# Altium schematic symbol library WS-ROTV.SchLib: 28 symbols
Pins are listed as number, name and electrical type; pins without a type are passive.

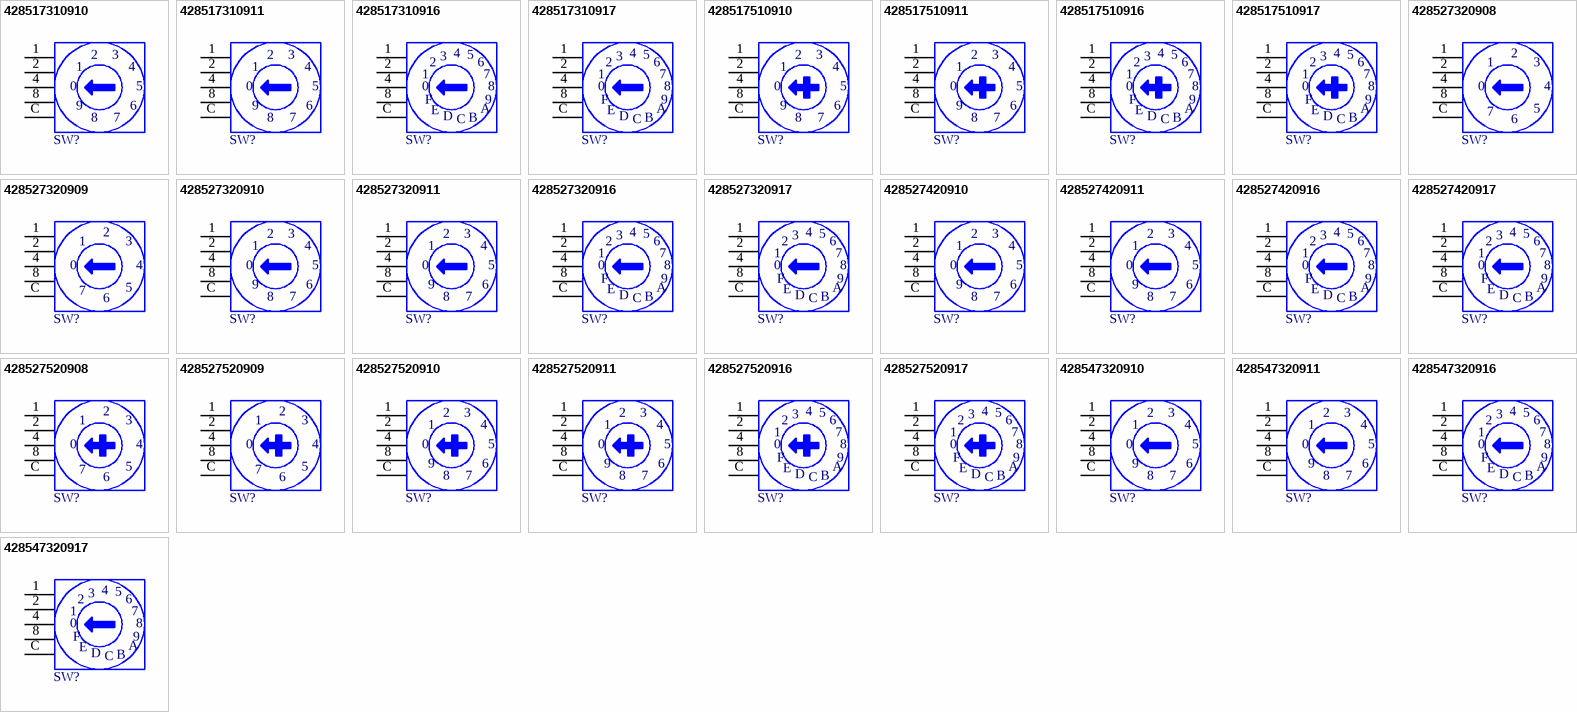
[diagram p0: symbols 428517310910 to 428547320917]

## 428517310910
designator SW?  (value not drawn)
WS-ROTV THT IP67 Rotary Switch 4x1 Terminal with Arrow Type Actuator, 10 x 10mm, Arrow Type, 10p; Manufacturer: Wurth Elektronik; Actuator Color: Dark Grey; Code: Real Code; Cover Material: PA66; Number of Positions: 10; Rated Current: 200mA; Rated Voltage: 42VDC; Washable: Yes; Manufacturer Part Number: 428517310910; Category: Rotary Switches; Switches.Match Code: WS-ROTV; ComponentLink1Description: Website Link; ComponentLink1URL: https://www.we-online.com/redexpert/article/428517310910?ad; ComponentLink2Description: Datasheet Link; ComponentLink2URL: https://www.we-online.com/redexpert/spec/428517310910?ad; Mount: Through Hole; Operating Temperature Max: 85°C; Operating Temperature Min: -40°C; Packaging: Tube; Length: 10mm; Width: 10mm; Height: 6.5mm; Actuator Type: Arrow Type; Ingress Protection Code: IP67; Terminal Plating: Gold; Switches.Match Code_1: WS-ROTV
footprint 42851731091x_10p
pins: 1, 2, 4, 8, C
text: 3; 0; 5; 9; 6; 7

## 428517310911
designator SW?  (value not drawn)
WS-ROTV THT IP67 Rotary Switch 4x1 Terminal with Arrow Type Actuator, 10 x 10mm, Arrow Type, 10p; Manufacturer: Wurth Elektronik; Actuator Color: Ivory; Code: Complement Code; Cover Material: PA66; Number of Positions: 10; Rated Current: 200mA; Rated Voltage: 42VDC; Washable: Yes; Manufacturer Part Number: 428517310911; Category: Rotary Switches; Switches.Match Code: WS-ROTV; ComponentLink1Description: Website Link; ComponentLink1URL: https://www.we-online.com/redexpert/article/428517310911?ad; ComponentLink2Description: Datasheet Link; ComponentLink2URL: https://www.we-online.com/redexpert/spec/428517310911?ad; Mount: Through Hole; Operating Temperature Max: 85°C; Operating Temperature Min: -40°C; Packaging: Tube; Length: 10mm; Width: 10mm; Height: 6.5mm; Actuator Type: Arrow Type; Ingress Protection Code: IP67; Terminal Plating: Gold; Switches.Match Code_1: WS-ROTV
footprint 42851731091x_10p
pins: 1, 2, 4, 8, C
text: 3; 0; 5; 9; 6; 7

## 428517310916
designator SW?  (value not drawn)
WS-ROTV THT IP67 Rotary Switch 4x1 Terminal with Arrow Type Actuator, 10 x 10mm, Arrow Type, 16p; Manufacturer: Wurth Elektronik; Actuator Color: Dark Grey; Code: Real Code; Cover Material: PA66; Number of Positions: 16; Rated Current: 200mA; Rated Voltage: 42VDC; Washable: Yes; Manufacturer Part Number: 428517310916; Category: Rotary Switches; Switches.Match Code: WS-ROTV; ComponentLink1Description: Website Link; ComponentLink1URL: https://www.we-online.com/redexpert/article/428517310916?ad; ComponentLink2Description: Datasheet Link; ComponentLink2URL: https://www.we-online.com/redexpert/spec/428517310916?ad; Mount: Through Hole; Operating Temperature Max: 85°C; Operating Temperature Min: -40°C; Packaging: Tube; Length: 10mm; Width: 10mm; Height: 6.5mm; Actuator Type: Arrow Type; Ingress Protection Code: IP67; Terminal Plating: Gold; Switches.Match Code_1: WS-ROTV
footprint 42851731091x_16p
pins: 1, 2, 4, 8, C
text: 3; 5; 6; 7; 0; F; 9; E; A; D; B

## 428517310917
designator SW?  (value not drawn)
WS-ROTV THT IP67 Rotary Switch 4x1 Terminal with Arrow Type Actuator, 10 x 10mm, Arrow Type, 16p; Manufacturer: Wurth Elektronik; Actuator Color: Ivory; Code: Complement Code; Cover Material: PA66; Number of Positions: 16; Rated Current: 200mA; Rated Voltage: 42VDC; Washable: Yes; Manufacturer Part Number: 428517310917; Category: Rotary Switches; Switches.Match Code: WS-ROTV; ComponentLink1Description: Website Link; ComponentLink1URL: https://www.we-online.com/redexpert/article/428517310917?ad; ComponentLink2Description: Datasheet Link; ComponentLink2URL: https://www.we-online.com/redexpert/spec/428517310917?ad; Mount: Through Hole; Operating Temperature Max: 85°C; Operating Temperature Min: -40°C; Packaging: Tube; Length: 10mm; Width: 10mm; Height: 6.5mm; Actuator Type: Arrow Type; Ingress Protection Code: IP67; Terminal Plating: Gold; Switches.Match Code_1: WS-ROTV
footprint 42851731091x_16p
pins: 1, 2, 4, 8, C
text: 3; 5; 6; 7; 0; F; 9; E; A; D; B

## 428517510910
designator SW?  (value not drawn)
WS-ROTV THT IP67 Rotary Switch 4x1 Terminal with Cross Type Actuator, 10 x 10mm, Cross Type, 10p; Manufacturer: Wurth Elektronik; Actuator Color: Dark Grey; Code: Real Code; Cover Material: PA66; Number of Positions: 10; Rated Current: 200mA; Rated Voltage: 42VDC; Washable: Yes; Manufacturer Part Number: 428517510910; Category: Rotary Switches; Switches.Match Code: WS-ROTV; ComponentLink1Description: Website Link; ComponentLink1URL: https://www.we-online.com/redexpert/article/428517510910?ad; ComponentLink2Description: Datasheet Link; ComponentLink2URL: https://www.we-online.com/redexpert/spec/428517510910?ad; Mount: Through Hole; Operating Temperature Max: 85°C; Operating Temperature Min: -40°C; Packaging: Tube; Length: 10mm; Width: 10mm; Height: 6.5mm; Actuator Type: Cross Type; Ingress Protection Code: IP67; Terminal Plating: Gold; Switches.Match Code_1: WS-ROTV
footprint 42851751091x_10p
pins: 1, 2, 4, 8, C
text: 3; 0; 5; 9; 6; 7

## 428517510911
designator SW?  (value not drawn)
WS-ROTV THT IP67 Rotary Switch 4x1 Terminal with Cross Type Actuator, 10 x 10mm, Cross Type, 10p; Manufacturer: Wurth Elektronik; Actuator Color: Ivory; Code: Complement Code; Cover Material: PA66; Number of Positions: 10; Rated Current: 200mA; Rated Voltage: 42VDC; Washable: Yes; Manufacturer Part Number: 428517510911; Category: Rotary Switches; Switches.Match Code: WS-ROTV; ComponentLink1Description: Website Link; ComponentLink1URL: https://www.we-online.com/redexpert/article/428517510911?ad; ComponentLink2Description: Datasheet Link; ComponentLink2URL: https://www.we-online.com/redexpert/spec/428517510911?ad; Mount: Through Hole; Operating Temperature Max: 85°C; Operating Temperature Min: -40°C; Packaging: Tube; Length: 10mm; Width: 10mm; Height: 6.5mm; Actuator Type: Cross Type; Ingress Protection Code: IP67; Terminal Plating: Gold; Switches.Match Code_1: WS-ROTV
footprint 42851751091x_10p
pins: 1, 2, 4, 8, C
text: 3; 0; 5; 9; 6; 7

## 428517510916
designator SW?  (value not drawn)
WS-ROTV THT IP67 Rotary Switch 4x1 Terminal with Cross Type Actuator, 10 x 10mm, Cross Type, 16p; Manufacturer: Wurth Elektronik; Actuator Color: Dark Grey; Code: Real Code; Cover Material: PA66; Number of Positions: 16; Rated Current: 200mA; Rated Voltage: 42VDC; Washable: Yes; Manufacturer Part Number: 428517510916; Category: Rotary Switches; Switches.Match Code: WS-ROTV; ComponentLink1Description: Website Link; ComponentLink1URL: https://www.we-online.com/redexpert/article/428517510916?ad; ComponentLink2Description: Datasheet Link; ComponentLink2URL: https://www.we-online.com/redexpert/spec/428517510916?ad; Mount: Through Hole; Operating Temperature Max: 85°C; Operating Temperature Min: -40°C; Packaging: Tube; Length: 10mm; Width: 10mm; Height: 6.5mm; Actuator Type: Cross Type; Ingress Protection Code: IP67; Terminal Plating: Gold; Switches.Match Code_1: WS-ROTV
footprint 42851751091x_16p
pins: 1, 2, 4, 8, C
text: 3; 5; 6; 7; 0; F; 9; E; A; D; B

## 428517510917
designator SW?  (value not drawn)
WS-ROTV THT IP67 Rotary Switch 4x1 Terminal with Cross Type Actuator, 10 x 10mm, Cross Type, 16p; Manufacturer: Wurth Elektronik; Actuator Color: Ivory; Code: Complement Code; Cover Material: PA66; Number of Positions: 16; Rated Current: 200mA; Rated Voltage: 42VDC; Washable: Yes; Manufacturer Part Number: 428517510917; Category: Rotary Switches; Switches.Match Code: WS-ROTV; ComponentLink1Description: Website Link; ComponentLink1URL: https://www.we-online.com/redexpert/article/428517510917?ad; ComponentLink2Description: Datasheet Link; ComponentLink2URL: https://www.we-online.com/redexpert/spec/428517510917?ad; Mount: Through Hole; Operating Temperature Max: 85°C; Operating Temperature Min: -40°C; Packaging: Tube; Length: 10mm; Width: 10mm; Height: 6.5mm; Actuator Type: Cross Type; Ingress Protection Code: IP67; Terminal Plating: Gold; Switches.Match Code_1: WS-ROTV
footprint 42851751091x_16p
pins: 1, 2, 4, 8, C
text: 3; 5; 6; 7; 0; F; 9; E; A; D; B

## 428527320908
designator SW?  (value not drawn)
WS-ROTV THT Rotary Switch with Arrow Type Actuator, 10 x 10mm, Arrow Type, 8p; Manufacturer: Wurth Elektronik; Cover Material: PA66; Number of Positions: 8; Rated Current: 150mA; Rated Voltage: 24VDC; Washable: Yes; ComponentLink1Description: Website Link; ComponentLink1URL: https://www.we-online.com/redexpert/article/428527320908?ad; ComponentLink2Description: Datasheet Link; ComponentLink2URL: https://www.we-online.com/redexpert/spec/428527320908?ad; Manufacturer Part Number: 428527320908; Category: Rotary Switches; Match Code: WS-ROTV; Mount: Through Hole; Operating Temperature Max: 85°C; Operating Temperature Min: -40°C; Packaging: Tube; Length: 10mm; Width: 10mm; Height: 6.5mm; Actuator Type: Arrow Type; Terminal Plating: Gold
footprint 42852732090x_8p
pins: 1, 2, 4, 8, C
text: 3; 0; 7; 5; 6

## 428527320909
designator SW?  (value not drawn)
WS-ROTV THT Rotary Switch with Arrow Type Actuator, 10 x 10mm, Arrow Type, 8p; Manufacturer: Wurth Elektronik; Cover Material: PA66; Number of Positions: 8; Rated Current: 150mA; Rated Voltage: 24VDC; Washable: Yes; ComponentLink1Description: Website Link; ComponentLink1URL: https://www.we-online.com/redexpert/article/428527320909?ad; ComponentLink2Description: Datasheet Link; ComponentLink2URL: https://www.we-online.com/redexpert/spec/428527320909?ad; Manufacturer Part Number: 428527320909; Category: Rotary Switches; Match Code: WS-ROTV; Mount: Through Hole; Operating Temperature Max: 85°C; Operating Temperature Min: -40°C; Packaging: Tube; Length: 10mm; Width: 10mm; Height: 6.5mm; Actuator Type: Arrow Type; Terminal Plating: Gold
footprint 42852732090x_8p
pins: 1, 2, 4, 8, C
text: 3; 0; 7; 5; 6

## 428527320910
designator SW?  (value not drawn)
WS-ROTV THT Rotary Switch with Arrow Type Actuator, 10 x 10mm, Arrow Type, 10p; Manufacturer: Wurth Elektronik; Cover Material: PA66; Number of Positions: 10; Rated Current: 150mA; Rated Voltage: 24VDC; Washable: Yes; ComponentLink1Description: Website Link; ComponentLink1URL: https://www.we-online.com/redexpert/article/428527320910?ad; ComponentLink2Description: Datasheet Link; ComponentLink2URL: https://www.we-online.com/redexpert/spec/428527320910?ad; Manufacturer Part Number: 428527320910; Category: Rotary Switches; Match Code: WS-ROTV; Mount: Through Hole; Operating Temperature Max: 85°C; Operating Temperature Min: -40°C; Packaging: Tube; Length: 10mm; Width: 10mm; Height: 6.5mm; Actuator Type: Arrow Type; Terminal Plating: Gold
footprint 42852732091x_10p
pins: 1, 2, 4, 8, C
text: 3; 0; 5; 9; 6; 7

## 428527320911
designator SW?  (value not drawn)
WS-ROTV THT Rotary Switch with Arrow Type Actuator, 10 x 10mm, Arrow Type, 10p; Manufacturer: Wurth Elektronik; Cover Material: PA66; Number of Positions: 10; Rated Current: 150mA; Rated Voltage: 24VDC; Washable: Yes; ComponentLink1Description: Website Link; ComponentLink1URL: https://www.we-online.com/redexpert/article/428527320911?ad; ComponentLink2Description: Datasheet Link; ComponentLink2URL: https://www.we-online.com/redexpert/spec/428527320911?ad; Manufacturer Part Number: 428527320911; Category: Rotary Switches; Match Code: WS-ROTV; Mount: Through Hole; Operating Temperature Max: 85°C; Operating Temperature Min: -40°C; Packaging: Tube; Length: 10mm; Width: 10mm; Height: 6.5mm; Actuator Type: Arrow Type; Terminal Plating: Gold
footprint 42852732091x_10p
pins: 1, 2, 4, 8, C
text: 3; 0; 5; 9; 6; 7

## 428527320916
designator SW?  (value not drawn)
WS-ROTV THT Rotary Switch with Arrow Type Actuator, 10 x 10mm, Arrow Type, 16p; Manufacturer: Wurth Elektronik; Cover Material: PA66; Number of Positions: 16; Rated Current: 150mA; Rated Voltage: 24VDC; Washable: Yes; ComponentLink1Description: Website Link; ComponentLink1URL: https://www.we-online.com/redexpert/article/428527320916?ad; ComponentLink2Description: Datasheet Link; ComponentLink2URL: https://www.we-online.com/redexpert/spec/428527320916?ad; Manufacturer Part Number: 428527320916; Category: Rotary Switches; Match Code: WS-ROTV; Mount: Through Hole; Operating Temperature Max: 85°C; Operating Temperature Min: -40°C; Packaging: Tube; Length: 10mm; Width: 10mm; Height: 6.5mm; Actuator Type: Arrow Type; Terminal Plating: Gold
footprint 42852732091x_16p
pins: 1, 2, 4, 8, C
text: 3; 5; 6; 7; 0; F; 9; E; A; D; B

## 428527320917
designator SW?  (value not drawn)
WS-ROTV THT Rotary Switch with Arrow Type Actuator, 10 x 10mm, Arrow Type, 16p; Manufacturer: Wurth Elektronik; Cover Material: PA66; Number of Positions: 16; Rated Current: 150mA; Rated Voltage: 24VDC; Washable: Yes; ComponentLink1Description: Website Link; ComponentLink1URL: https://www.we-online.com/redexpert/article/428527320917?ad; ComponentLink2Description: Datasheet Link; ComponentLink2URL: https://www.we-online.com/redexpert/spec/428527320917?ad; Manufacturer Part Number: 428527320917; Category: Rotary Switches; Match Code: WS-ROTV; Mount: Through Hole; Operating Temperature Max: 85°C; Operating Temperature Min: -40°C; Packaging: Tube; Length: 10mm; Width: 10mm; Height: 6.5mm; Actuator Type: Arrow Type; Terminal Plating: Gold
footprint 42852732091x_16p
pins: 1, 2, 4, 8, C
text: 3; 5; 6; 7; 0; F; 9; E; A; D; B

## 428527420910
designator SW?  (value not drawn)
WS-ROTV THT Rotary Switch with Shaft Type Actuator, 10 x 10mm, Shaft Type, 10p; Manufacturer: Wurth Elektronik; Cover Material: PA66; Number of Positions: 10; Rated Current: 150mA; Rated Voltage: 24VDC; Washable: Yes; ComponentLink1Description: Website Link; ComponentLink1URL: https://www.we-online.com/redexpert/article/428527420910?ad; ComponentLink2Description: Datasheet Link; ComponentLink2URL: https://www.we-online.com/redexpert/spec/428527420910?ad; Manufacturer Part Number: 428527420910; Category: Rotary Switches; Match Code: WS-ROTV; Mount: Through Hole; Operating Temperature Max: 85°C; Operating Temperature Min: -40°C; Packaging: Tube; Length: 10mm; Width: 10mm; Height: 13.8mm; Actuator Type: Shaft Type; Terminal Plating: Gold
footprint 42852742091x_10p
pins: 1, 2, 4, 8, C
text: 3; 0; 5; 9; 6; 7

## 428527420911
designator SW?  (value not drawn)
WS-ROTV THT Rotary Switch with Shaft Type Actuator, 10 x 10mm, Shaft Type, 10p; Manufacturer: Wurth Elektronik; Cover Material: PA66; Number of Positions: 10; Rated Current: 150mA; Rated Voltage: 24VDC; Washable: Yes; ComponentLink1Description: Website Link; ComponentLink1URL: https://www.we-online.com/redexpert/article/428527420911?ad; ComponentLink2Description: Datasheet Link; ComponentLink2URL: https://www.we-online.com/redexpert/spec/428527420911?ad; Manufacturer Part Number: 428527420911; Category: Rotary Switches; Match Code: WS-ROTV; Mount: Through Hole; Operating Temperature Max: 85°C; Operating Temperature Min: -40°C; Packaging: Tube; Length: 10mm; Width: 10mm; Height: 13.8mm; Actuator Type: Shaft Type; Terminal Plating: Gold
footprint 42852742091x_10p
pins: 1, 2, 4, 8, C
text: 3; 0; 5; 9; 6; 7

## 428527420916
designator SW?  (value not drawn)
WS-ROTV THT Rotary Switch with Shaft Type Actuator, 10 x 10mm, Shaft Type, 16p; Manufacturer: Wurth Elektronik; Cover Material: PA66; Number of Positions: 16; Rated Current: 150mA; Rated Voltage: 24VDC; Washable: Yes; ComponentLink1Description: Website Link; ComponentLink1URL: https://www.we-online.com/redexpert/article/428527420916?ad; ComponentLink2Description: Datasheet Link; ComponentLink2URL: https://www.we-online.com/redexpert/spec/428527420916?ad; Manufacturer Part Number: 428527420916; Category: Rotary Switches; Match Code: WS-ROTV; Mount: Through Hole; Operating Temperature Max: 85°C; Operating Temperature Min: -40°C; Packaging: Tube; Length: 10mm; Width: 10mm; Height: 13.8mm; Actuator Type: Shaft Type; Terminal Plating: Gold
footprint 42852742091x_16p
pins: 1, 2, 4, 8, C
text: 3; 5; 6; 7; 0; F; 9; E; A; D; B

## 428527420917
designator SW?  (value not drawn)
WS-ROTV THT Rotary Switch with Shaft Type Actuator, 10 x 10mm, Shaft Type, 16p; Manufacturer: Wurth Elektronik; Cover Material: PA66; Number of Positions: 16; Rated Current: 150mA; Rated Voltage: 24VDC; Washable: Yes; ComponentLink1Description: Website Link; ComponentLink1URL: https://www.we-online.com/redexpert/article/428527420917?ad; ComponentLink2Description: Datasheet Link; ComponentLink2URL: https://www.we-online.com/redexpert/spec/428527420917?ad; Manufacturer Part Number: 428527420917; Category: Rotary Switches; Match Code: WS-ROTV; Mount: Through Hole; Operating Temperature Max: 85°C; Operating Temperature Min: -40°C; Packaging: Tube; Length: 10mm; Width: 10mm; Height: 13.8mm; Actuator Type: Shaft Type; Terminal Plating: Gold
footprint 42852742091x_16p
pins: 1, 2, 4, 8, C
text: 3; 5; 6; 7; 0; F; 9; E; A; D; B

## 428527520908
designator SW?  (value not drawn)
WS-ROTV THT Rotary Switch with Cross Type Actuator, 10 x 10mm, Cross Type, 8p; Manufacturer: Wurth Elektronik; Cover Material: PA66; Number of Positions: 8; Rated Current: 150mA; Rated Voltage: 24VDC; Washable: Yes; ComponentLink1Description: Website Link; ComponentLink1URL: https://www.we-online.com/redexpert/article/428527520908?ad; ComponentLink2Description: Datasheet Link; ComponentLink2URL: https://www.we-online.com/redexpert/spec/428527520908?ad; Manufacturer Part Number: 428527520908; Category: Rotary Switches; Match Code: WS-ROTV; Mount: Through Hole; Operating Temperature Max: 85°C; Operating Temperature Min: -40°C; Packaging: Tube; Length: 10mm; Width: 10mm; Height: 6.5mm; Actuator Type: Cross Type; Terminal Plating: Gold
footprint 42852752090x_8p
pins: 1, 2, 4, 8, C
text: 3; 0; 7; 5; 6

## 428527520909
designator SW?  (value not drawn)
WS-ROTV THT Rotary Switch with Cross Type Actuator, 10 x 10mm, Cross Type, 8p; Manufacturer: Wurth Elektronik; Cover Material: PA66; Number of Positions: 8; Rated Current: 150mA; Rated Voltage: 24VDC; Washable: Yes; ComponentLink1Description: Website Link; ComponentLink1URL: https://www.we-online.com/redexpert/article/428527520909?ad; ComponentLink2Description: Datasheet Link; ComponentLink2URL: https://www.we-online.com/redexpert/spec/428527520909?ad; Manufacturer Part Number: 428527520909; Category: Rotary Switches; Match Code: WS-ROTV; Mount: Through Hole; Operating Temperature Max: 85°C; Operating Temperature Min: -40°C; Packaging: Tube; Length: 10mm; Width: 10mm; Height: 6.5mm; Actuator Type: Cross Type; Terminal Plating: Gold
footprint 42852752090x_8p
pins: 1, 2, 4, 8, C
text: 3; 0; 7; 5; 6

## 428527520910
designator SW?  (value not drawn)
WS-ROTV THT Rotary Switch with Cross Type Actuator, 10 x 10mm, Cross Type, 10p; Manufacturer: Wurth Elektronik; Cover Material: PA66; Number of Positions: 10; Rated Current: 150mA; Rated Voltage: 24VDC; Washable: Yes; ComponentLink1Description: Website Link; ComponentLink1URL: https://www.we-online.com/redexpert/article/428527520910?ad; ComponentLink2Description: Datasheet Link; ComponentLink2URL: https://www.we-online.com/redexpert/spec/428527520910?ad; Manufacturer Part Number: 428527520910; Category: Rotary Switches; Match Code: WS-ROTV; Mount: Through Hole; Operating Temperature Max: 85°C; Operating Temperature Min: -40°C; Packaging: Tube; Length: 10mm; Width: 10mm; Height: 6.5mm; Actuator Type: Cross Type; Terminal Plating: Gold
footprint 42852752091x_10p
pins: 1, 2, 4, 8, C
text: 3; 0; 5; 9; 6; 7

## 428527520911
designator SW?  (value not drawn)
WS-ROTV THT Rotary Switch with Cross Type Actuator, 10 x 10mm, Cross Type, 10p; Manufacturer: Wurth Elektronik; Cover Material: PA66; Number of Positions: 10; Rated Current: 150mA; Rated Voltage: 24VDC; Washable: Yes; ComponentLink1Description: Website Link; ComponentLink1URL: https://www.we-online.com/redexpert/article/428527520911?ad; ComponentLink2Description: Datasheet Link; ComponentLink2URL: https://www.we-online.com/redexpert/spec/428527520911?ad; Manufacturer Part Number: 428527520911; Category: Rotary Switches; Match Code: WS-ROTV; Mount: Through Hole; Operating Temperature Max: 85°C; Operating Temperature Min: -40°C; Packaging: Tube; Length: 10mm; Width: 10mm; Height: 6.5mm; Actuator Type: Cross Type; Terminal Plating: Gold
footprint 42852752091x_10p
pins: 1, 2, 4, 8, C
text: 3; 0; 5; 9; 6; 7

## 428527520916
designator SW?  (value not drawn)
WS-ROTV THT Rotary Switch with Cross Type Actuator, 10 x 10mm, Cross Type, 16p; Manufacturer: Wurth Elektronik; Cover Material: PA66; Number of Positions: 16; Rated Current: 150mA; Rated Voltage: 24VDC; Washable: Yes; ComponentLink1Description: Website Link; ComponentLink1URL: https://www.we-online.com/redexpert/article/428527520916?ad; ComponentLink2Description: Datasheet Link; ComponentLink2URL: https://www.we-online.com/redexpert/spec/428527520916?ad; Manufacturer Part Number: 428527520916; Category: Rotary Switches; Match Code: WS-ROTV; Operating Temperature Max: 85°C; Operating Temperature Min: -40°C; Packaging: Tube; Length: 10mm; Width: 10mm; Height: 6.5mm; Actuator Type: Cross Type; Terminal Plating: Gold; Mount: Through Hole
footprint 42852752091x_16p
pins: 1, 2, 4, 8, C
text: 3; 5; 6; 7; 0; F; 9; E; A; D; B

## 428527520917
designator SW?  (value not drawn)
WS-ROTV THT Rotary Switch with Cross Type Actuator, 10 x 10mm, Cross Type, 16p; Manufacturer: Wurth Elektronik; Cover Material: PA66; Number of Positions: 16; Rated Current: 150mA; Rated Voltage: 24VDC; Washable: Yes; ComponentLink1Description: Website Link; ComponentLink1URL: https://www.we-online.com/redexpert/article/428527520917?ad; ComponentLink2Description: Datasheet Link; ComponentLink2URL: https://www.we-online.com/redexpert/spec/428527520917?ad; Manufacturer Part Number: 428527520917; Category: Rotary Switches; Match Code: WS-ROTV; Mount: Through Hole; Operating Temperature Max: 85°C; Operating Temperature Min: -40°C; Packaging: Tube; Length: 10mm; Width: 10mm; Height: 6.5mm; Actuator Type: Cross Type; Terminal Plating: Gold
footprint 42852752091x_16p
pins: 1, 2, 4, 8, C
text: 3; 5; 6; 7; 0; F; 9; E; A; D; B

## 428547320910
designator SW?  (value not drawn)
WS-ROTV THT Rotary Switch with Arrow Type Actuator, 7 x 7mm, Arrow Type, 10p; Manufacturer: Wurth Elektronik; Cover Material: Stainless Steel; Number of Positions: 10; Rated Current: 100mA; Rated Voltage: 42VDC; Washable: Yes; ComponentLink1Description: Website Link; ComponentLink1URL: https://www.we-online.com/redexpert/article/428547320910?ad; ComponentLink2Description: Datasheet Link; ComponentLink2URL: https://www.we-online.com/redexpert/spec/428547320910?ad; Manufacturer Part Number: 428547320910; Category: Rotary Switches; Match Code: WS-ROTV; Mount: Through Hole; Operating Temperature Max: 125°C; Operating Temperature Min: -60°C; Packaging: Tube; Length: 7mm; Width: 7mm; Height: 3.65mm; Actuator Type: Arrow Type; Terminal Plating: Gold
footprint 42854732091x_10p
pins: 1, 2, 4, 8, C
text: 3; 0; 5; 9; 6; 7

## 428547320911
designator SW?  (value not drawn)
WS-ROTV THT Rotary Switch with Arrow Type Actuator, 7 x 7mm, Arrow Type, 10p; Manufacturer: Wurth Elektronik; Cover Material: Stainless Steel; Number of Positions: 10; Rated Current: 100mA; Rated Voltage: 42VDC; Washable: Yes; ComponentLink1Description: Website Link; ComponentLink1URL: https://www.we-online.com/redexpert/article/428547320911?ad; ComponentLink2Description: Datasheet Link; ComponentLink2URL: https://www.we-online.com/redexpert/spec/428547320911?ad; Manufacturer Part Number: 428547320911; Category: Rotary Switches; Match Code: WS-ROTV; Mount: Through Hole; Operating Temperature Max: 125°C; Operating Temperature Min: -60°C; Packaging: Tube; Length: 7mm; Width: 7mm; Height: 3.65mm; Actuator Type: Arrow Type; Terminal Plating: Gold
footprint 42854732091x_10p
pins: 1, 2, 4, 8, C
text: 3; 0; 5; 9; 6; 7

## 428547320916
designator SW?  (value not drawn)
WS-ROTV THT Rotary Switch with Arrow Type Actuator, 7 x 7mm, Arrow Type, 16p; Manufacturer: Wurth Elektronik; Cover Material: Stainless Steel; Number of Positions: 16; Rated Current: 100mA; Rated Voltage: 42VDC; Washable: Yes; ComponentLink1Description: Website Link; ComponentLink1URL: https://www.we-online.com/redexpert/article/428547320916?ad; ComponentLink2Description: Datasheet Link; ComponentLink2URL: https://www.we-online.com/redexpert/spec/428547320916?ad; Manufacturer Part Number: 428547320916; Category: Rotary Switches; Match Code: WS-ROTV; Mount: Through Hole; Operating Temperature Max: 125°C; Operating Temperature Min: -60°C; Packaging: Tube; Length: 7mm; Width: 7mm; Height: 3.65mm; Actuator Type: Arrow Type; Terminal Plating: Gold
footprint 42854732091x_16p
pins: 1, 2, 4, 8, C
text: 3; 5; 6; 7; 0; F; 9; E; A; D; B

## 428547320917
designator SW?  (value not drawn)
WS-ROTV THT Rotary Switch with Arrow Type Actuator, 7 x 7mm, Arrow Type, 16p; Manufacturer: Wurth Elektronik; Cover Material: Stainless Steel; Number of Positions: 16; Rated Current: 100mA; Rated Voltage: 42VDC; Washable: Yes; ComponentLink1Description: Website Link; ComponentLink1URL: https://www.we-online.com/redexpert/article/428547320917?ad; ComponentLink2Description: Datasheet Link; ComponentLink2URL: https://www.we-online.com/redexpert/spec/428547320917?ad; Manufacturer Part Number: 428547320917; Category: Rotary Switches; Match Code: WS-ROTV; Mount: Through Hole; Operating Temperature Max: 125°C; Operating Temperature Min: -60°C; Packaging: Tube; Length: 7mm; Width: 7mm; Height: 3.65mm; Actuator Type: Arrow Type; Terminal Plating: Gold
footprint 42854732091x_16p
pins: 1, 2, 4, 8, C
text: 3; 5; 6; 7; 0; F; 9; E; A; D; B